# Altium schematic symbol library 船型开关.SchLib: 2 symbols
Pins are listed as number, name and electrical type; pins without a type are passive.

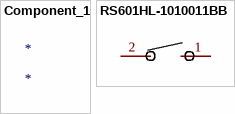
[diagram p0: symbols Component_1 to RS601HL-1010011BB]

## Component_1
designator *

## RS601HL-1010011BB
designator SW??  (value not drawn)
Manufacturer: HCTL(华灿天禄); Add into BOM: yes; Contact Current: 3A; Voltage Rating (AC): 250V; Circuit: 单刀单掷; Mechanical Life: 10000; Actuator Type: 凹面弯曲; Actuator Color: 黑色; Actuator Marking: 聨 O; With Lamp: 无; Pin Style: 焊片; Switch Length: 15mm; Switch Width: 10.5mm; Switch Height: 11.7mm; Name: RS601HL-1010011BB; Symbol: RS601HL-1010011BB; Device: RS601HL-1010011BB; LCSC Part Name: RS601HL-1010011BB; Supplier Part: C2885782; Manufacturer Part: RS601HL-1010011BB; Supplier Footprint: 插件; JLCPCB Part Class: Extended Part; Datasheet: https://atta.szlcsc.com/upload/public/pdf/source/20210820/B1970E40D09304D7FA648AE2099FB3E8.pdf; Supplier: LCSC; Convert to PCB: yes; Voltage Rating (DC): -; Operating Temperature: -25℃~+85℃
footprint SW-TH_RS601HL-1010011BB
3D model SW-TH_RS601HL-1010011BB
pins: 1, 2